# Altium schematic symbol library SCH - DIODES - ZENER.SCHLIB: 1 symbol
Pins are listed as number, name and electrical type; pins without a type are passive.

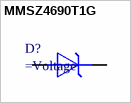
[diagram p0: symbol MMSZ4690T1G]

## MMSZ4690T1G
designator D?
Diode, Zener, 5.6V, 0.5W
pins: 1 A, 2 K